# Altium footprint library SnapEDApcb.PcbLib: 1 footprints
Each footprint in its own frame and in the unit in brackets; x right, y up, seen from the top. Pads: shape width x height; smd on the part's side, far side on the other; paste and mask are expansions set on the pad; w line width, h text height; cw(c..) or ccw(c..) is an arc to the next point about the centre after c.
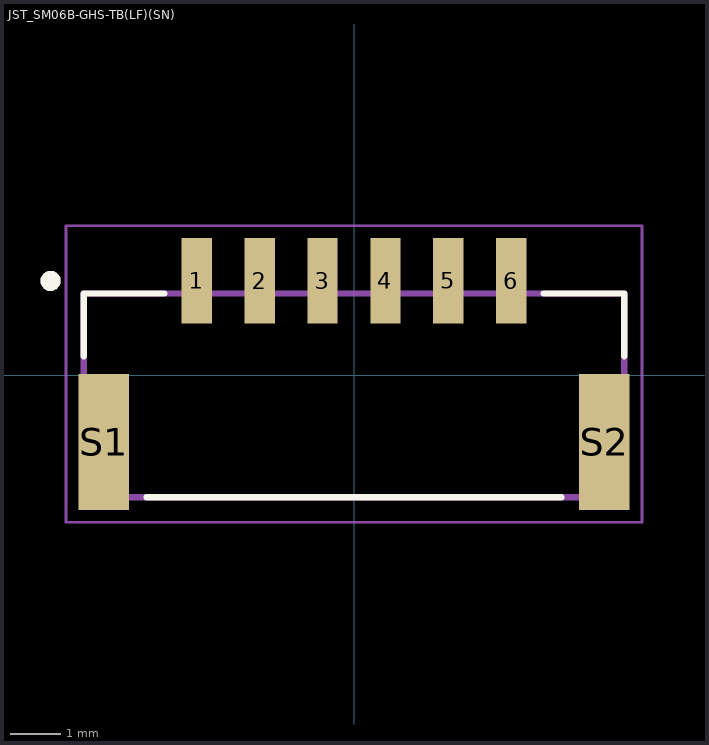
[diagram p0: the footprint, top view; thin cyan lines are the x and y axes]

## JST_SM06B-GHS-TB(LF)(SN) [mm]
pads (8):
  rect 0.6x1.7 smd: 1(-3.125,1.875) 2(-1.875,1.875) 3(-0.625,1.875) 4(0.625,1.875) 5(1.875,1.875) 6(3.125,1.875)
  rect 1x2.7 smd: S1(-4.975,-1.325) S2(4.975,-1.325)
Top Overlay:
  circle w0.2: c-6.032,1.875 r0.1
  lines w0.127: -5.375,0.375 -5.375,1.625 -3.775,1.625 ; -4.125,-2.425 4.125,-2.425 ; 3.775,1.625 5.375,1.625 5.375,0.375
Mechanical 13:
  circle w0.2: c-6.032,1.875 r0.1
  lines w0.127: -5.375,-2.425 5.375,-2.425 5.375,1.625 -5.375,1.625 -5.375,-2.425
Mechanical 15:
  lines w0.05: -5.725,-2.925 -5.725,2.975 5.725,2.975 5.725,-2.925 -5.725,-2.925